# Altium schematic symbol library ABSDataSystem_PartsLibrary.SchLib: 57 symbols
Pins are listed as number, name and electrical type; pins without a type are passive.

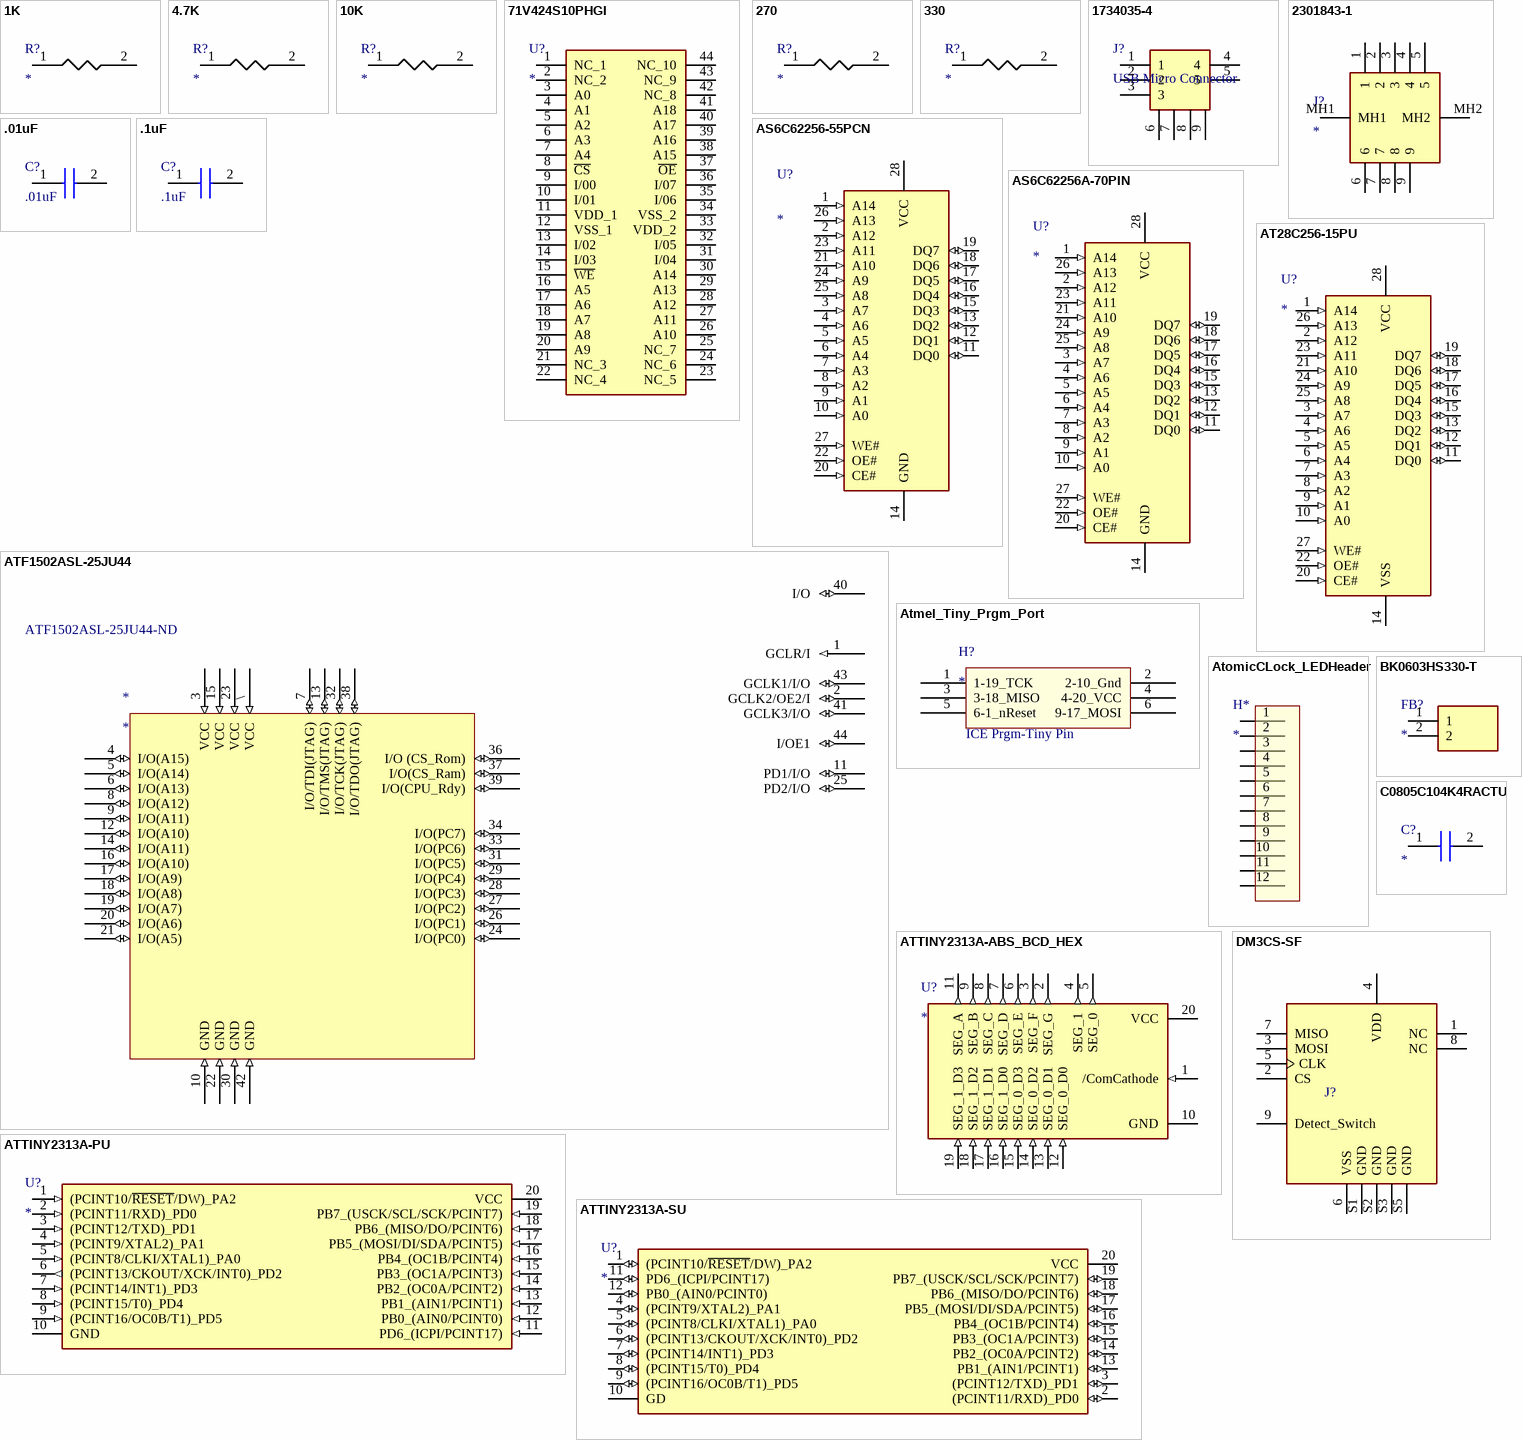
[diagram p0: symbols 1K to DM3CS-SF]

## 1K
designator R?
1K Res 0805; Manufacturer_Name: YAGEO (PHYCOMP); Manufacturer_Part_Number: RT0805FRE071KL; Datasheet Link: https://componentsearchengine.com/Datasheets/2/RT0805FRE071KL.pdf; Height: 0.6mm
footprint RESC2012X60N
pins: 1, 2

## 4.7K
designator R?
4.7K Res 0805; Manufacturer_Name: YAGEO (PHYCOMP); Manufacturer_Part_Number: RT0805FRE071KL; Datasheet Link: https://componentsearchengine.com/Datasheets/2/RT0805FRE071KL.pdf; Height: 0.6mm
footprint RESC2012X60N
pins: 1, 2

## 10K
designator R?
10k Res 0805; Manufacturer_Name: YAGEO (PHYCOMP); Manufacturer_Part_Number: RT0805FRE0710KL; Datasheet Link: https://componentsearchengine.com/Datasheets/2/RT0805FRE0710KL.pdf; Height: 0.6mm
footprint RESC2012X60N
pins: 1, 2

## 71V424S10PHGI
designator U?
71V424S10PHGI SMD; Manufacturer_Name: IDT; Datasheet Link: https://www.idt.com/document/dst/71v424-data-sheet; Height: 1.2mm; Manufacturer_Part_Number: 71V424S10PHGI
footprint SOP80P1176X120-44N
pins: 1 NC_1, 2 NC_2, 3 A0, 4 A1, 5 A2, 6 A3, 7 A4, 8 ~{CS}, 9 I/00, 10 I/01, 11 VDD_1, 12 VSS_1, 13 I/02, 14 I/03, 15 ~{WE}, 16 A5, 17 A6, 18 A7, 19 A8, 20 A9, 21 NC_3, 22 NC_4, 23 NC_5, 24 NC_6, 25 NC_7, 26 A10, 27 A11, 28 A12, 29 A13, 30 A14, 31 I/04, 32 I/05, 33 VDD_2, 34 VSS_2, 35 I/06, 36 I/07, 37 ~{OE}, 38 A15, 39 A16, 40 A17, 41 A18, 42 NC_8, 43 NC_9, 44 NC_10

## 270
designator R?
270 Res 0805; Manufacturer_Name: YAGEO (PHYCOMP); Manufacturer_Part_Number: RT0805FRE07270KL; Datasheet Link: https://componentsearchengine.com/Datasheets/2/RT0805FRE071KL.pdf; Height: 0.6mm
footprint RESC2012X60N
pins: 1, 2

## 330
designator R?
330 Res 0805; Manufacturer_Name: YAGEO (PHYCOMP); Manufacturer_Part_Number: RT0805FRE07330KL; Datasheet Link: https://componentsearchengine.com/Datasheets/2/RT0805FRE071KL.pdf; Height: 0.6mm
footprint RESC2012X60N
pins: 1, 2

## 1734035-4
designator J?, comment USB Micro Connector
USB Micro Connector SMD; Manufacturer_Name: TE Connectivity; Manufacturer_Part_Number: 1734035-4; Datasheet Link: https://componentsearchengine.com//1734035-4.pdf; Mouser2 Part Number: 571-1734035-4; Mouser2 Price/Stock: https://www.mouser.com/Search/Refine.aspx?Keyword=571-1734035-4
footprint 1734035-2USB
pins: 1, 2, 3, 4, 5, 6 Shield, 7 Shield, 8 Shield, 9 Shield5

## 2301843-1
designator J?
9 Pin Serial Through Hole; Manufacturer_Name: TE Connectivity; Manufacturer_Part_Number: 2301843-1; Datasheet Link: https://componentsearchengine.com//2301843-1.pdf; Height: 13.955mm; Mouser2 Part Number: 571-2301843-1; Mouser2 Price/Stock: https://www.mouser.com/Search/Refine.aspx?Keyword=571-2301843-1
footprint 23018431
pins: 1, 2, 3, 4, 5, 6, 7, 8, 9, MH1, MH2

## .01uF
designator C?
.01uF Cap 0805; Manufacturer_Name: Wurth Elektronik; Manufacturer_Part_Number: 885382207006; Datasheet Link: https://katalog.we-online.com/pbs/datasheet/885382207006.pdf; Height: 1.35mm
footprint CAPC2012X135N (Footprint not found)
pins: 1, 2

## .1uF
designator C?
.1uF Cap 0805; Manufacturer_Name: Wurth Elektronik; Manufacturer_Part_Number: 885382206004; Datasheet Link: https://katalog.we-online.com/pbs/datasheet/885382206004.pdf; Height: 1.35mm
footprint CAPC2012X135N
pins: 1, 2

## AS6C62256-55PCN
designator U?
256 KBit SRAM Through Hole; Manufacturer_Name: Alliance Memory; Manufacturer_Part_Number: AS6C62256-55PCN; Datasheet Link: https://componentsearchengine.com//AS6C62256-55PCN.pdf; Height: 3.81mm; Mouser2 Part Number: 913-AS6C62256-55PCN; Mouser2 Price/Stock: https://www.mouser.com/Search/Refine.aspx?Keyword=913-AS6C62256-55PCN
footprint DIP1587W140P254L3632H381Q28N
pins: 1 A14 (in), 2 A12 (in), 3 A7 (in), 4 A6 (in), 5 A5 (in), 6 A4 (in), 7 A3 (in), 8 A2 (in), 9 A1 (in), 10 A0 (in), 11 DQ0 (io), 12 DQ1 (io), 13 DQ2 (io), 14 GND (power), 15 DQ3 (io), 16 DQ4 (io), 17 DQ5 (io), 18 DQ6 (io), 19 DQ7 (io), 20 CE# (in), 21 A10 (in), 22 OE# (in), 23 A11 (in), 24 A9 (in), 25 A8 (in), 26 A13 (in), 27 WE# (in), 28 VCC (power)

## AS6C62256A-70PIN
designator U?
256 KBit SRAM Through Hole; Manufacturer_Name: Alliance Memory; Manufacturer_Part_Number: AS6C62256A-70PIN; Datasheet Link: https://componentsearchengine.com//AS6C62256A-70PIN.pdf; Height: 4.572mm; Mouser2 Part Number: 913-AS6C62256A-70PIN; Mouser2 Price/Stock: https://www.mouser.com/Search/Refine.aspx?Keyword=913-AS6C62256A-70PIN
footprint DIP902W56P254L3556H457Q28N
pins: 1 A14 (in), 2 A12 (in), 3 A7 (in), 4 A6 (in), 5 A5 (in), 6 A4 (in), 7 A3 (in), 8 A2 (in), 9 A1 (in), 10 A0 (in), 11 DQ0 (io), 12 DQ1 (io), 13 DQ2 (io), 14 GND (power), 15 DQ3 (io), 16 DQ4 (io), 17 DQ5 (io), 18 DQ6 (io), 19 DQ7 (io), 20 CE# (in), 21 A10 (in), 22 OE# (in), 23 A11 (in), 24 A9 (in), 25 A8 (in), 26 A13 (in), 27 WE# (in), 28 VCC (power)

## AT28C256-15PU
designator U?
EEPROM 246K Bit Through Hole; Manufacturer_Name: Microchip; Manufacturer_Part_Number: AT28C256-15PU; Datasheet Link: https://componentsearchengine.com//AT28C256-15PU.pdf; Height: 4.826mm; Mouser2 Part Number: 556-AT28C25615PU; Mouser2 Price/Stock: https://www.mouser.com/Search/Refine.aspx?Keyword=556-AT28C25615PU
footprint DIP1556W56P254L3702H483Q28N
pins: 1 A14 (in), 2 A12 (in), 3 A7 (in), 4 A6 (in), 5 A5 (in), 6 A4 (in), 7 A3 (in), 8 A2 (in), 9 A1 (in), 10 A0 (in), 11 DQ0 (io), 12 DQ1 (io), 13 DQ2 (io), 14 VSS (power), 15 DQ3 (io), 16 DQ4 (io), 17 DQ5 (io), 18 DQ6 (io), 19 DQ7 (io), 20 CE# (in), 21 A10 (in), 22 OE# (in), 23 A11 (in), 24 A9 (in), 25 A8 (in), 26 A13 (in), 27 WE# (in), 28 VCC (power)

## ATF1502ASL-25JU44
designator *  Supplier Part Number 1: ATF1502ASL-25JU44-ND
IC CPLD 32 MC 25NS EE 44PLCC; Manufacturer: Microchip / Atmel; Manufacturer Part Number: ATF1502ASL-25JU44; Operating Supply Voltage: 5V; Speed Grade: 25; Max Frequency: 60MHz; Memory Type: EEPROM; Number of Logic Blocks (LABs): 2; Number of I/Os: 32; Number of Gates: 750; Max Supply Voltage: 5.5V; Min Supply Voltage: 4.5V; Supplier 1: Digi-Key; RoHS: Yes; Category: CPLDs - Complex Programming Logic Devices; Stock 1: 692; Pricing 1: 1=1.93000, 25=1.75000, 100=1.62000 (USD); Mount: Surface Mount,Through Hole; Case/Package: PLCC; Number of Pins: 44; Weight: 0.084185oz; Contact Plating: Tin,Matte; Min Operating Temperature: -40°C; Max Operating Temperature: 85°C; Propagation Delay: 25ns; Package Quantity: 27; Packaging: Rail/Tube; Frequency: 60MHz; Number of Macrocells: 32; Turn-On Delay Time: 25ns; Number of Logic Elements/Cells: 2; REACH SVHC: No SVHC; Lead Free: Lead Free; ComponentLink1URL: https://datasheet.ciiva.com/4911/doc0995-56892-4911952.pdf?src-supplier=Mouser; ComponentLink1Description: https://datasheet.ciiva.com/4911/doc0995-56892-4911952.pdf?src-supplier=Mouser; ComponentLink2URL: https://datasheet.ciiva.com/1406/doc0995-1406937.pdf?src-supplier=Digi-Key; ComponentLink2Description: https://datasheet.ciiva.com/1406/doc0995-1406937.pdf?src-supplier=Digi-Key; ComponentLink3URL: https://datasheet.ciiva.com/22639/1817553-22639226.pdf?src-supplier=Element14; ComponentLink3Description: https://datasheet.ciiva.com/22639/1817553-22639226.pdf?src-supplier=Element14; ComponentLink4URL: https://datasheet.ciiva.com/14542/70123952-14542540.pdf?src-supplier=Allied+Electronics; ComponentLink4Description: https://datasheet.ciiva.com/14542/70123952-14542540.pdf?src-supplier=Allied+Electronics; ComponentLink5URL: https://datasheet.ciiva.com/25924/doc0995-25924622.pdf?src-supplier=Avnet+Europe; ComponentLink5Description: https://datasheet.ciiva.com/25924/doc0995-25924622.pdf?src-supplier=Avnet+Europe
footprint PLCC127P1753X1753X457-44M (Leaded Chip Carrier, 44-Leads, Body 17.53x17.53mm, Pitch 1.270mm, IPC Low Density)
pins: 1 GCLR/I (in), 2 GCLK2/OE2/I (io), 3 VCC (in), 4 I/O(A15) (io), 5 I/O(A14) (io), 6 I/O(A13) (io), 7 I/O/TDI(JTAG) (io), 8 I/O(A12) (io), 9 I/O(A11) (io), 10 GND (in), 11 PD1/I/O (io), 12 I/O(A10) (io), 13 I/O/TMS(JTAG) (io), 14 I/O(A11) (io), 15 VCC (in), 16 I/O(A10) (io), 17 I/O(A9) (io), 18 I/O(A8) (io), 19 I/O(A7) (io), 20 I/O(A6) (io), 21 I/O(A5) (io), 22 GND (in), 23 VCC (in), 24 I/O(PC0) (io), 25 PD2/I/O (io), 26 I/O(PC1) (io), 27 I/O(PC2) (io), 28 I/O(PC3) (io), 29 I/O(PC4) (io), 30 GND (in), 31 I/O(PC5) (io), 32 I/O/TCK(JTAG) (io), 33 I/O(PC6) (io), 34 I/O(PC7) (io), 36 I/O (CS_Rom) (io), 37 I/O(CS_Ram) (io), 38 I/O/TDO(JTAG) (io), 39 I/O(CPU_Rdy) (io), 40 I/O (io), 41 GCLK3/I/O (io), 42 GND (in), 43 GCLK1/I/O (io), 44 I/OE1 (io), \ VCC (in)

## Atmel_Tiny_Prgm_Port
designator H?
6 Pin 2X3 Through Hole Header
footprint HDR2X3 (Connector; Header; 3x2 Position)
pins: 1 1-19_TCK, 2 2-10_Gnd, 3 3-18_MISO, 4 4-20_VCC, 5 6-1_nReset, 6 9-17_MOSI
text: ICE Prgm-Tiny Pin

## AtomicCLock_LEDHeader
designator H*
Atomic Clock Led Header
footprint Atomic_Clock_DisplayHeader
pins: 1, 2, 3, 4, 5, 6, 7, 8, 9, 10, 11, 12

## ATTINY2313A-ABS_BCD_HEX
designator U?
Atmel Tiny 2313A Through Hole; Manufacturer_Name: Microchip; Manufacturer_Part_Number: ATTINY2313A-PU; Datasheet Link: https://componentsearchengine.com//ATTINY2313A-PU.pdf; Height: 5.334mm; Mouser2 Part Number: 556-ATTINY2313A-PU; Mouser2 Price/Stock: https://www.mouser.com/Search/Refine.aspx?Keyword=556-ATTINY2313A-PU
footprint DIP794W56P254L2574H533Q20N
pins: 1 /ComCathode (in), 2 SEG_G (out), 3 SEG_F (out), 4 SEG_1 (out), 5 SEG_0 (out), 6 SEG_E (out), 7 SEG_D (out), 8 SEG_C (out), 9 SEG_B (out), 10 GND (power), 11 SEG_A (out), 12 SEG_0_D0 (in), 13 SEG_0_D1 (in), 14 SEG_0_D2 (in), 15 SEG_0_D3 (in), 16 SEG_1_D0 (in), 17 SEG_1_D1 (in), 18 SEG_1_D2 (in), 19 SEG_1_D3 (in), 20 VCC (power)

## ATTINY2313A-PU
designator U?
Atmel Tiny 2313A Through Hole; Manufacturer_Name: Microchip; Manufacturer_Part_Number: ATTINY2313A-PU; Datasheet Link: https://componentsearchengine.com//ATTINY2313A-PU.pdf; Height: 5.334mm; Mouser2 Part Number: 556-ATTINY2313A-PU; Mouser2 Price/Stock: https://www.mouser.com/Search/Refine.aspx?Keyword=556-ATTINY2313A-PU
footprint DIP794W56P254L2574H533Q20N
pins: 1 (PCINT10/~{RESET}/DW)_PA2 (in), 2 (PCINT11/RXD)_PD0 (in), 3 (PCINT12/TXD)_PD1 (in), 4 (PCINT9/XTAL2)_PA1 (in), 5 (PCINT8/CLKI/XTAL1)_PA0 (in), 6 (PCINT13/CKOUT/XCK/INT0)_PD2 (out), 7 (PCINT14/INT1)_PD3 (in), 8 (PCINT15/T0)_PD4 (in), 9 (PCINT16/OC0B/T1)_PD5 (in), 10 GND (power), 11 PD6_(ICPI/PCINT17) (in), 12 PB0_(AIN0/PCINT0) (in), 13 PB1_(AIN1/PCINT1) (in), 14 PB2_(OC0A/PCINT2) (in), 15 PB3_(OC1A/PCINT3) (in), 16 PB4_(OC1B/PCINT4) (in), 17 PB5_(MOSI/DI/SDA/PCINT5) (in), 18 PB6_(MISO/DO/PCINT6) (in), 19 PB7_(USCK/SCL/SCK/PCINT7) (in), 20 VCC (power)

## ATTINY2313A-SU
designator U?
Atmel Tiny 2313A SMD; Manufacturer_Name: Microchip; Manufacturer_Part_Number: ATTINY2313A-SU; Datasheet Link: https://componentsearchengine.com//ATTINY2313A-SU.pdf; Height: 2.65mm; Mouser2 Part Number: 556-ATTINY2313A-SU; Mouser2 Price/Stock: https://www.mouser.com/Search/Refine.aspx?Keyword=556-ATTINY2313A-SU
footprint SOIC127P1032X265-20N
pins: 1 (PCINT10/~{RESET}/DW)_PA2 (io), 2 (PCINT11/RXD)_PD0 (io), 3 (PCINT12/TXD)_PD1 (io), 4 (PCINT9/XTAL2)_PA1 (io), 5 (PCINT8/CLKI/XTAL1)_PA0 (io), 6 (PCINT13/CKOUT/XCK/INT0)_PD2 (io), 7 (PCINT14/INT1)_PD3 (io), 8 (PCINT15/T0)_PD4 (io), 9 (PCINT16/OC0B/T1)_PD5 (io), 10 GD, 11 PD6_(ICPI/PCINT17) (io), 12 PB0_(AIN0/PCINT0) (io), 13 PB1_(AIN1/PCINT1) (io), 14 PB2_(OC0A/PCINT2) (io), 15 PB3_(OC1A/PCINT3) (io), 16 PB4_(OC1B/PCINT4) (io), 17 PB5_(MOSI/DI/SDA/PCINT5) (io), 18 PB6_(MISO/DO/PCINT6) (io), 19 PB7_(USCK/SCL/SCK/PCINT7) (io), 20 VCC (power)

## BK0603HS330-T
designator FB?
Ferrite Bead; Manufacturer_Name: TAIYO YUDEN; Manufacturer_Part_Number: BK0603HS330-T; Datasheet Link: http://ds.yuden.co.jp/TYCOMPAS/ut/detail.do?productNo=BK0603HS330-T&fileName=BK0603HS330-T_SS&mode=specSheetDownload.pdf; Height: 0.33mm; Mouser2 Part Number: BK0603HS330-T; Mouser2 Price/Stock: 0.14
footprint BEADC0603X33N
pins: 1, 2

## C0805C104K4RACTU
designator C?
0.1uF Cap 0805 Kemet; Manufacturer_Part_Number: C0805C104K4RACTU; Datasheet Link: https://componentsearchengine.com//C0805C104K4RACTU.pdf; Height: 0.88mm; Mouser2 Part Number: 80-C0805C104K4R; Mouser2 Price/Stock: https://www.mouser.com/Search/Refine.aspx?Keyword=80-C0805C104K4R; Manufacturer_Name: Kemet
footprint CAPC2012X88N
pins: 1, 2

## DM3CS-SF
designator J?, comment Micro SD Card Socket  (value not drawn)
Micro SD Card SMD Socket; MF: Hirose; MP: DM3CS-SF; Package: None; Digi-Key_Part_Number: HR1972CT-ND; Digi-Key_Purchase_URL: https://www.digikey.com/product-detail/en/hirose-electric-co-ltd/DM3CS-SF/HR1972CT-ND/2602740?utm_source=snapeda&utm_medium=aggregator&utm_campaign=symbol; SnapEDA_Link: https://www.snapeda.com/parts/DM3CS-SF/Hirose%20Electric%20Co%20Ltd/view-part/189585/?ref=snap; Value: *
footprint HRS_DM3CS-SF
pins: 1 NC, 2 CS, 3 MOSI, 4 VDD, 5 CLK, 6 VSS, 7 MISO, 8 NC, 9 Detect_Switch, S1 GND, S2 GND, S3 GND, S5 GND

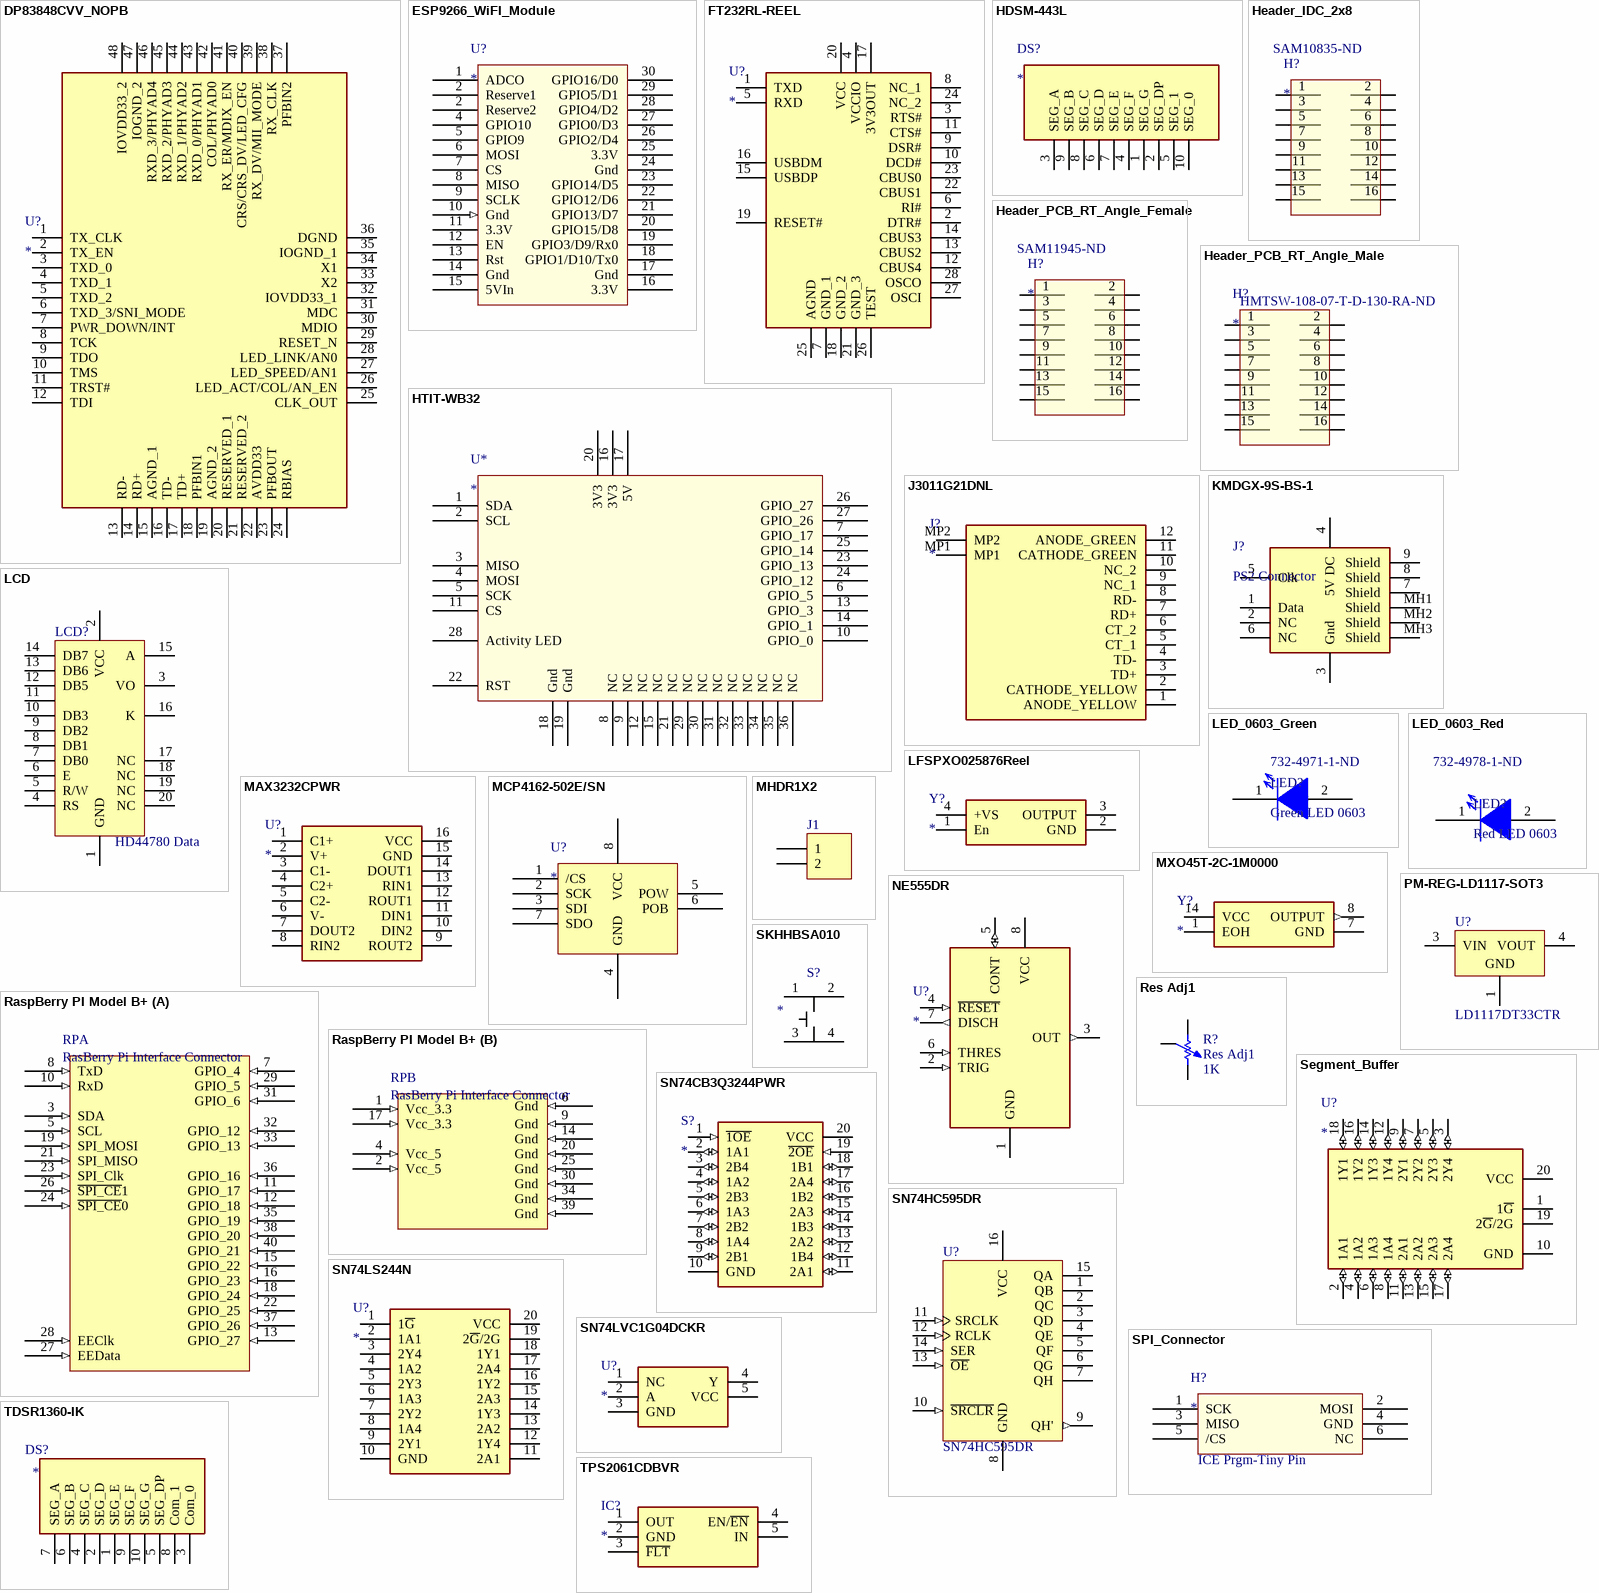
[diagram p1: symbols DP83848CVV_NOPB to TPS2061CDBVR]

## DP83848CVV_NOPB
designator U?
10/100 Base-T Phy SMD; Manufacturer_Name: Texas Instruments; Manufacturer_Part_Number: DP83848CVV/NOPB; Datasheet Link: http://www.ti.com/lit/gpn/dp83848c; Height: 1.6mm; Mouser2 Part Number: 926-DP83848CVV/NOPB; Mouser2 Price/Stock: https://www.mouser.com/Search/Refine.aspx?Keyword=926-DP83848CVV%2FNOPB
footprint QFP50P900X900X160-48N
pins: 1 TX_CLK, 2 TX_EN, 3 TXD_0, 4 TXD_1, 5 TXD_2, 6 TXD_3/SNI_MODE, 7 PWR_DOWN/INT, 8 TCK, 9 TDO, 10 TMS, 11 TRST#, 12 TDI, 13 RD-, 14 RD+, 15 AGND_1, 16 TD-, 17 TD+, 18 PFBIN1, 19 AGND_2, 20 RESERVED_1, 21 RESERVED_2, 22 AVDD33, 23 PFBOUT, 24 RBIAS, 25 CLK_OUT, 26 LED_ACT/COL/AN_EN, 27 LED_SPEED/AN1, 28 LED_LINK/AN0, 29 RESET_N, 30 MDIO, 31 MDC, 32 IOVDD33_1, 33 X2, 34 X1, 35 IOGND_1, 36 DGND, 37 PFBIN2, 38 RX_CLK, 39 RX_DV/MII_MODE, 40 CRS/CRS_DV/LED_CFG, 41 RX_ER/MDIX_EN, 42 COL/PHYAD0, 43 RXD_0/PHYAD1, 44 RXD_1/PHYAD2, 45 RXD_2/PHYAD3, 46 RXD_3/PHYAD4, 47 IOGND_2, 48 IOVDD33_2

## ESP9266_WiFI_Module
designator U?
footprint ESP9266_Module
pins: 1 ADCO, 2 Reserve1, 2 Reserve2, 4 GPIO10, 5 GPIO9, 6 MOSI, 7 CS, 8 MISO, 9 SCLK, 10 Gnd (in), 11 3.3V, 12 EN, 13 Rst, 14 Gnd, 15 5VIn, 16 3.3V, 17 Gnd, 18 GPIO1/D10/Tx0, 19 GPIO3/D9/Rx0, 20 GPIO15/D8, 21 GPIO13/D7, 22 GPIO12/D6, 23 GPIO14/D5, 24 Gnd, 25 3.3V, 26 GPIO2/D4, 27 GPIO0/D3, 28 GPIO4/D2, 29 GPIO5/D1, 30 GPIO16/D0

## FT232RL-REEL
designator U?
USB-Serial SMD; Manufacturer_Name: FTDI Chip; Manufacturer_Part_Number: FT232RL-REEL; Datasheet Link: http://www.ftdichip.com/Support/Documents/DataSheets/ICs/DS_FT232R.pdf; Height: 2mm
footprint SOP65P778X200-28N
pins: 1 TXD, 2 DTR#, 3 RTS#, 4 VCCIO, 5 RXD, 6 RI#, 7 GND_1, 8 NC_1, 9 DSR#, 10 DCD#, 11 CTS#, 12 CBUS4, 13 CBUS2, 14 CBUS3, 15 USBDP, 16 USBDM, 17 3V3OUT, 18 GND_2, 19 RESET#, 20 VCC, 21 GND_3, 22 CBUS1, 23 CBUS0, 24 NC_2, 25 AGND, 26 TEST, 27 OSCI, 28 OSCO

## HDSM-443L
designator DS?
Dual 7 Segment Common Cathode SMD Orange; Manufacturer_Name: Avago Technologies; Manufacturer_Part_Number: HDSM-443L; Datasheet Link: https://docs.broadcom.com/doc/AV02-0982EN; Height: 4mm
footprint HDSM443L
pins: 1 SEG_G, 2 SEG_DP, 3 SEG_A, 4 SEG_F, 5 SEG_1, 6 SEG_D, 7 SEG_E, 8 SEG_C, 9 SEG_B, 10 SEG_0

## Header_IDC_2x8
designator H?  Supplier Part Number 1: SAM10835-ND
16 Pin 2x8 Through Hold IDC Connector; Manufacturer: Samtec; Manufacturer Part Number: TST-108-01-G-D; Number of Contacts: 16; Gender: Male; Connector Type: Male Pin; Pitch: 2.54mm; Row Spacing: 0.1inch; Supplier 1: Digi-Key; RoHS: Yes; Category: Headers and Wire Housings; Stock 1: 227; Pricing 1: 1=2.85000, 10=2.73600, 100=2.28000, 500=1.93800, 1000=1.65300, 5000=1.48200 (USD); Mount: Through Hole; Contact Plating: Gold; Contact Material: Bronze; Housing Material: Polyester; Housing Color: Black; Color: Black; Min Operating Temperature: -55°C; Max Operating Temperature: 125°C; Number of Rows: 2; Termination: Solder; Packaging: Rail/Tube; Orientation: Straight; Number of Positions: 16; Length: 27.94mm; Depth: 9.27mm; Contact Mating Length: 0.25inch; REACH SVHC: No SVHC; ComponentLink1URL: https://datasheet.ciiva.com/739/tst-mkt-739845.pdf?src-supplier=Digi-Key; ComponentLink1Description: https://datasheet.ciiva.com/739/tst-mkt-739845.pdf?src-supplier=Digi-Key; ComponentLink2URL: https://datasheet.ciiva.com/10018/htst-10018510.pdf?src-supplier=Avnet; ComponentLink2Description: https://datasheet.ciiva.com/10018/htst-10018510.pdf?src-supplier=Avnet
footprint HDR2X8 (Connector; Header; 8x2 Position)
pins: 1, 2, 3, 4, 5, 6, 7, 8, 9, 10, 11, 12, 13, 14, 15, 16

## Header_PCB_RT_Angle_Female
designator H?  Supplier Part Number 1: SAM11945-ND
Header 2x8 RT Angle Female Through Hole; Manufacturer: Samtec; Manufacturer Part Number: SSW-108-02-T-D-RA; Number of Contacts: 16; Gender: Receptacle; Max Current Rating: 6.9A; Max Voltage Rating (AC): 550V; Mating Cycles: 100; Contact Resistance: 10mR; Pitch: 2.54mm; Supplier 1: Digi-Key; RoHS: Yes; Category: Connectors; Stock 1: 101; Pricing 1: 1=1.62000, 10=1.47000, 100=1.26000, 500=1.05000, 1000=0.90000, 5000=0.79800, 10000=0.78000 (USD); Contact Plating: Tin,Matte; Contact Material: Bronze; Color: Black; Housing Color: Black; Housing Material: Polymer; Min Operating Temperature: -55°C; Max Operating Temperature: 105°C; Number of Rows: 2; Termination: Solder; Orientation: Right Angle; Length: 20.83mm; Depth: 12.57mm; Radiation Hardening: No; REACH SVHC: No SVHC; ComponentLink1URL: https://datasheet.ciiva.com/23872/ssw-th-23872416.pdf?src-supplier=Newark; ComponentLink1Description: https://datasheet.ciiva.com/23872/ssw-th-23872416.pdf?src-supplier=Newark; ComponentLink2URL: https://datasheet.ciiva.com/22677/1796368-22677501.pdf?src-supplier=Element14; ComponentLink2Description: https://datasheet.ciiva.com/22677/1796368-22677501.pdf?src-supplier=Element14; ComponentLink3URL: https://datasheet.ciiva.com/14495/ssw-th-14495167.pdf?src-supplier=Farnell; ComponentLink3Description: https://datasheet.ciiva.com/14495/ssw-th-14495167.pdf?src-supplier=Farnell
footprint HDR2X8 (Connector; Header; 8x2 Position)
pins: 1, 2, 3, 4, 5, 6, 7, 8, 9, 10, 11, 12, 13, 14, 15, 16

## Header_PCB_RT_Angle_Male
designator H?  Supplier Part Number 1: HMTSW-108-07-T-D-130-RA-ND
Header 2x8 RT Angle Male Through Hole; Manufacturer: Samtec; Manufacturer Part Number: HMTSW-108-07-T-D-130-RA; Number of Contacts: 16; Pitch: 2.54mm; Supplier 1: Digi-Key; RoHS: Yes; Category: Connectors; Stock 1: 191; Pricing 1: 1=1.33000, 10=1.17300, 100=1.01200, 500=0.82800, 1000=0.73600, 5000=0.64400, 10000=0.61180 (USD); Mount: Through Hole; Contact Plating: Tin; Contact Material: Bronze; Number of Rows: 2; Gender: Male; Termination: Solder; Lead Free: Lead Free; ComponentLink1URL: http://cloud.samtec.com/catalog_english/HMTSW.PDF?src-supplier=Avnet; ComponentLink1Description: http://cloud.samtec.com/catalog_english/HMTSW.PDF?src-supplier=Avnet
footprint HDR2X8 (Connector; Header; 8x2 Position)
pins: 1, 2, 3, 4, 5, 6, 7, 8, 9, 10, 11, 12, 13, 14, 15, 16

## HTIT-WB32
designator U*
WIFI Module; ComponentLink1Description: New link; ComponentLink1URL: https://www.amazon.com/gp/product/B07DKD79Y9/ref=ppx_yo_dt_b_asin_title_o00_s00?ie=UTF8&psc=1
footprint DIP36Wide
pins: 1 SDA, 2 SCL, 3 MISO, 4 MOSI, 5 SCK, 6 GPIO_5, 7 GPIO_17, 8 NC, 9 NC, 10 GPIO_0, 11 CS, 12 NC, 13 GPIO_3, 14 GPIO_1, 15 NC, 16 3V3, 17 5V, 18 Gnd, 19 Gnd, 20 3V3, 21 NC, 22 RST, 23 GPIO_13, 24 GPIO_12, 25 GPIO_14, 26 GPIO_27, 27 GPIO_26, 28 Activity LED, 29 NC, 30 NC, 31 NC, 32 NC, 33 NC, 34 NC, 35 NC, 36 NC

## J3011G21DNL
designator J?
RJ45 Ethernet connector SMD; Manufacturer_Name: Pulse; Manufacturer_Part_Number: J3011G21DNL; Datasheet Link: https://componentsearchengine.com//J3011G21DNL.pdf; Mouser2 Part Number: 673-J3011G21DNL; Mouser2 Price/Stock: https://www.mouser.com/Search/Refine.aspx?Keyword=673-J3011G21DNL
footprint J3011G21DNL
pins: 1 ANODE_YELLOW, 2 CATHODE_YELLOW, 3 TD+, 4 TD-, 5 CT_1, 6 CT_2, 7 RD+, 8 RD-, 9 NC_1, 10 NC_2, 11 CATHODE_GREEN, 12 ANODE_GREEN, MP1, MP2

## KMDGX-9S-BS-1
designator J?, comment PS2 Connector
PS2 Keyboard/Mouse Connector; Manufacturer_Name: Kycon; Manufacturer_Part_Number: KMDGX-9S-BS-1; Datasheet Link: https://componentsearchengine.com//KMDGX-9S-BS-1.pdf; Height: 13mm; Mouser2 Part Number: 806-KMDGX-9S-BS-1; Mouser2 Price/Stock: https://www.mouser.com/Search/Refine.aspx?Keyword=806-KMDGX-9S-BS-1
footprint KMDGX9SBS1
pins: 1 Data, 2 NC, 3 Gnd, 4 5V DC, 5 Clk, 6 NC, 7 Shield, 8 Shield, 9 Shield, MH1 Shield, MH2 Shield, MH3 Shield

## LCD
designator LCD?, comment HD44780 Data
2 Line LCD DIsplay; LatestRevisionDate: 17-Jul-2002; LatestRevisionNote: Re-released for DXP Platform.; Publisher: Altium Limited
footprint LCD_1X16_Header
pins: 1 GND, 2 VCC, 3 VO, 4 RS, 5 R/W, 6 E, 7 DB0, 8 DB1, 9 DB2, 10 DB3, 11 ~{}, 12 DB5, 13 DB6, 14 DB7, 15 A, 16 K, 17 NC, 18 NC, 19 NC, 20 NC

## LED_0603_Green
designator LED?, comment Green LED 0603  Supplier Part Number 1: 732-4971-1-ND
Green 0603 SMD LED; Manufacturer: Wurth Electronics; Manufacturer Part Number: 150060GS75000; Wavelength: 520nm; Viewing Angle: 140°; Lens Style: Clear,Rectangular; Luminous Intensity: 430mcd; Forward Current: 30mA; Forward Voltage: 3.2V; Test Current: 20mA; Supplier 1: Digi-Key; RoHS: Yes; Category: LEDs; Stock 1: 71509; Pricing 1: 1=0.14000, 50=0.13300, 100=0.11400, 500=0.09900 (USD); Mount: Surface Mount; Case/Package: 0603; Color: Green; Case Code (Metric): 1608; Case Code (Imperial): 0603; Min Operating Temperature: -40°C; Max Operating Temperature: 85°C; Package Quantity: 4000; Packaging: Tape and Reel; Dominant Wavelength: 520nm; Length: 1.6mm; Width: 0.8mm; Height: 0.7mm; REACH SVHC: Unknown; Lead Free: Lead Free; ComponentLink1URL: https://datasheet.ciiva.com/29562/150060gs75000-29562868.pdf?src-supplier=Digi-Key; ComponentLink1Description: https://datasheet.ciiva.com/29562/150060gs75000-29562868.pdf?src-supplier=Digi-Key; ComponentLink2URL: https://datasheet.ciiva.com/29279/759427-da-01-en-chipled-0603-w-kl-gruen-150060gs75000-29279201.pdf?src-supplier=Conrad; ComponentLink2Description: https://datasheet.ciiva.com/29279/759427-da-01-en-chipled-0603-w-kl-gruen-150060gs75000-29279201.pdf?src-supplier=Conrad; ComponentLink3URL: https://datasheet.ciiva.com/29562/150060gs75000-29562869.pdf?src-supplier=Digi-Key; ComponentLink3Description: https://datasheet.ciiva.com/29562/150060gs75000-29562869.pdf?src-supplier=Digi-Key; ComponentLink4URL: https://datasheet.ciiva.com/29562/150060gs75000-29562870.pdf?src-supplier=Digi-Key; ComponentLink4Description: https://datasheet.ciiva.com/29562/150060gs75000-29562870.pdf?src-supplier=Digi-Key
footprint 0603_Diode
pins: 1 K, 2 A

## LED_0603_Red
designator LED?, comment Red LED 0603  Supplier Part Number 1: 732-4978-1-ND
Red 0603 SMD LED; Manufacturer: Wurth Electronics; Manufacturer Part Number: 150060RS75000; Viewing Angle: 140°; Lens Style: Clear,Rectangular; Luminous Intensity: 250mcd; Forward Current: 30mA; Forward Voltage: 2V; Wavelength: 625nm; Test Current: 20mA; Supplier 1: Digi-Key; RoHS: Yes; Category: LEDs; Stock 1: 132905; Pricing 1: 1=0.14000, 50=0.13300, 100=0.11400, 500=0.09900 (USD); Mount: Surface Mount; Case/Package: 0603; Color: Red; Case Code (Metric): 1608; Case Code (Imperial): 0603; Min Operating Temperature: -40°C; Max Operating Temperature: 85°C; Package Quantity: 1; Packaging: Cut Tape; Dominant Wavelength: 625nm; Length: 1.6mm; Width: 0.8mm; Height: 0.7mm; REACH SVHC: Unknown; ComponentLink1URL: https://datasheet.ciiva.com/29563/150060rs75000-29563040.pdf?src-supplier=Digi-Key; ComponentLink1Description: https://datasheet.ciiva.com/29563/150060rs75000-29563040.pdf?src-supplier=Digi-Key; ComponentLink2URL: https://datasheet.ciiva.com/29279/759428-da-01-en-chipled-0603-w-kl-rot-150060rs75000-29279196.pdf?src-supplier=Conrad; ComponentLink2Description: https://datasheet.ciiva.com/29279/759428-da-01-en-chipled-0603-w-kl-rot-150060rs75000-29279196.pdf?src-supplier=Conrad
footprint 0603_Diode
pins: 1 K, 2 A

## LFSPXO025876Reel
designator Y?
13.56 MHz Crystal Oscilator SMD; Manufacturer_Name: IQD; Manufacturer_Part_Number: LFSPXO025876Reel; Datasheet Link: https://componentsearchengine.com/Datasheets/1/LFSPXO025876Reel.pdf; Height: 1.4mm
footprint LFSPXO025876Reel
pins: 1 En, 2 GND, 3 OUTPUT, 4 +VS

## MAX3232CPWR
designator U?
RS232 Interface SMD; Manufacturer_Name: Texas Instruments; Manufacturer_Part_Number: MAX3232CPWR; Datasheet Link: http://www.ti.com/lit/gpn/max3232; Height: 1.2mm; Mouser2 Part Number: 595-MAX3232CPWR; Mouser2 Price/Stock: https://www.mouser.com/Search/Refine.aspx?Keyword=595-MAX3232CPWR
footprint SOP65P640X120-16N
pins: 1 C1+, 2 V+, 3 C1-, 4 C2+, 5 C2-, 6 V-, 7 DOUT2, 8 RIN2, 9 ROUT2, 10 DIN2, 11 DIN1, 12 ROUT1, 13 RIN1, 14 DOUT1, 15 GND, 16 VCC

## MCP4162-502E/SN
designator U?
5K Digital Rheostat with EE and 256 Positions SMD
footprint SOIC127P600X175-8N
pins: 1 /CS, 2 SCK, 3 SDI, 4 GND, 5 POW, 6 POB, 7 SDO, 8 VCC

## MHDR1X2
designator J1
Header, 2-Pin; LatestRevisionDate: 17-Jul-2002; LatestRevisionNote: Re-released for DXP Platform.; Publisher: Altium Limited
signal-integrity model Connector
footprint MHDR1X2 (Connector; Header; 2 Position)
pins: 1, 2

## MXO45T-2C-1M0000
designator Y?
1 MHz Crystal Oscilator Through Hole; Manufacturer_Name: CTS; Manufacturer_Part_Number: MXO45T-2C-1M0000; Datasheet Link: https://componentsearchengine.com/Datasheets/1/MXO45T-2C-1M0000.pdf; Height: 6.1mm
footprint MXO45T2C1M0000
pins: 1 EOH, 7 GND, 8 OUTPUT (out), 14 VCC

## NE555DR
designator U?
NE-555 SMD; Manufacturer_Name: Texas Instruments; Manufacturer_Part_Number: NE555DR; Datasheet Link: http://www.ti.com/lit/ds/symlink/ne555.pdf; Height: 1.75mm; Mouser Part Number: 595-NE555DR; Mouser Price/Stock: https://www.mouser.com/Search/Refine.aspx?Keyword=595-NE555DR; RS Part Number: 1218414; RS Price/Stock: http://uk.rs-online.com/web/p/products/1218414
footprint SOIC127P600X175-8N
pins: 1 GND (power), 2 TRIG (in), 3 OUT (out), 4 ~{RESET} (in), 5 CONT (io), 6 THRES (in), 7 DISCH (out), 8 VCC (power)

## PM-REG-LD1117-SOT3
designator U?, comment LD1117DT33CTR
3.3V Voltage Regulator SMD; PackageVersion: 2011; ComponentLink1URL: http://www.st.com; DatasheetVersion: 1/11/2011; PackageReference: TO-252; ComponentLink1Description: Manufacturer URL; ComponentLink2URL: http://www.st.com/internet/com/TECHNICAL_RESOURCES/TECHNICAL_LITERATURE/DATASHEET/CD00000544.pdf; ComponentLink2Description: Datasheet; PackageDescription: 3-Pin Transistor Outline Package 2.28 mm Pitch, 9.7 mm Lead Span (DPAK)
footprint TO-252_N (D-PAK, 4-Leads, Body 6.1x6.5mm, Pitch 2.28mm, Lead Span 9.7mm, IPC Medium Density)
pins: 1 GND (power), 3 VIN (power), 4 VOUT (power)

## RaspBerry PI Model B+
designator RP, comment RasBerry Pi Interface Connector
footprint Raspberry_PI_Model_B+
part A pins: 3 SDA (in), 5 SCL (in), 7 GPIO_4 (in), 8 TxD (in), 10 RxD (in), 11 GPIO_17 (in), 12 GPIO_18 (in), 13 GPIO_27 (in), 15 GPIO_22 (in), 16 GPIO_23 (in), 18 GPIO_24 (in), 19 SPI_MOSI (in), 21 SPI_MISO (in), 22 GPIO_25 (in), 23 SPI_Clk (in), 24 ~{SPI_CE}0 (in), 26 ~{SPI_CE}1 (in), 27 EEData (in), 28 EEClk (in), 29 GPIO_5 (in), 31 GPIO_6 (in), 32 GPIO_12 (in), 33 GPIO_13 (in), 35 GPIO_19 (in), 36 GPIO_16 (in), 37 GPIO_26 (in), 38 GPIO_20 (in), 40 GPIO_21 (in)
part B pins: 1 Vcc_3.3 (in), 2 Vcc_5 (in), 4 Vcc_5 (in), 6 Gnd (in), 9 Gnd (in), 14 Gnd (in), 17 Vcc_3.3 (in), 20 Gnd (in), 25 Gnd (in), 30 Gnd (in), 34 Gnd (in), 39 Gnd (in)

## Res Adj1
designator R?  value 1K
1K Res Var Through Hole; Set Position: 0.5; Published: 8-Jun-2000; LatestRevisionDate: 17-Jul-2002; LatestRevisionNote: Re-released for DXP Platform.; PackageReference: AXIAL-0.7; Publisher: Altium Limited; PackageDescription: Axial Device, Thru-Hole; 2 Leads; 0.7 in Pin Spacing
footprint AXIAL-0.7 (Axial Device, Thru-Hole; 2 Leads; 0.7 in Pin Spacing)
simulation model VRES (Variable Resistor)
signal-integrity model Res Adj
pins: 1, 2, 3

## Segment_Buffer
designator U?
SN74LS244N Through Hole; Manufacturer_Name: Texas Instruments; Datasheet Link: https://www.ti.com/lit/gpn/SN74LS244; Height: 5.08mm; Manufacturer_Part_Number: SN74LS244N
footprint DIP794W53P254L2540H508Q20N
pins: 1 1~{G}, 2 1A1 (io), 3 2Y4 (io), 4 1A2 (io), 5 2Y3 (io), 6 1A3 (io), 7 2Y2 (io), 8 1A4 (io), 9 2Y1 (io), 10 GND, 11 2A1 (io), 12 1Y4 (io), 13 2A2 (io), 14 1Y3 (io), 15 2A3 (io), 16 1Y2 (io), 17 2A4 (io), 18 1Y1 (io), 19 2~{G}/2G, 20 VCC

## SKHHBSA010
designator S?
Switch Through Hole; Manufacturer_Name: ALPS; Manufacturer_Part_Number: SKHHBSA010; Datasheet Link: https://componentsearchengine.com/Datasheets/2/SKHHBSA010.pdf; Height: 11.4mm
footprint SKHHBSA010
pins: 1, 2, 3, 4

## SN74CB3Q3244PWR
designator S?
SN74CB3Q3244PWR Digital Bus Switch SMD; Manufacturer_Name: Texas Instruments; Datasheet Link: http://www.ti.com/lit/gpn/sn74cb3q3244; Height: 1.2mm; Manufacturer_Part_Number: SN74CB3Q3244PWR; Arrow Part Number: SN74CB3Q3244PWR
footprint SOP65P640X120-20N
pins: 1 ~{1OE} (in), 2 1A1 (io), 3 2B4 (io), 4 1A2 (io), 5 2B3 (io), 6 1A3 (io), 7 2B2 (io), 8 1A4 (io), 9 2B1 (io), 10 GND (power), 11 2A1 (io), 12 1B4 (io), 13 2A2 (io), 14 1B3 (io), 15 2A3 (io), 16 1B2 (io), 17 2A4 (io), 18 1B1 (io), 19 ~{2OE} (in), 20 VCC (power)

## SN74HC595DR
designator U?
8-Bit Shift Registers With 3-State Output Registers, D0016A, LARGE T&R; Manufacturer: Texas Instruments; Output Drive (IOL/IOH)(Max)(mA): 7.8/-7.8; Rating: Military; ICC @ Nom Voltage(Max)(mA): 0.08; VCC(Min)(V): 2; tpd @ Nom Voltage(Max)(ns): 34; 3-State Output: Yes; Output Type: CMOS; Voltage(Nom)(V): 6; F @ Nom Voltage(Max)(Mhz): 28; Technology Family: HC; Bits: 4; Max Supply Voltage: 6V; Min Supply Voltage: 2V; Propagation Delay: 250ns; Number of Elements: 1; Number of Output Lines: 10; Direction: Unidirectional; Number of Bits: 8; Quiescent Current: 8uA; Operating Supply Voltage: 5V; Frequency: 42MHz; Max Input Current: 1uA; PackageReference: D0016A; Code_JEDEC: MS-012 variation AC; Generic Part Number: SN74HC595; Operating Temperature Range(C): -40 to 85; DatasheetVersion: SCLS041H; PackageVersion: http://www.ti.com/lit/ml/mpds178g/mpds178g.pdf; Input Type: CMOS; VCC(Max)(V): 6; Supplier 1: Digi-Key; Supplier Part Number 1: 296-14857-1-ND; Manufacturer Part Number: SN74HC595DR; Stock 1: 38406; Pricing 1: 1=0.51000, 10=0.43300, 100=0.32300, 500=0.25380, 1000=0.19611 (USD); RoHS: Yes; Mount: Surface Mount; Case/Package: SOIC; Number of Pins: 16; Weight: 0.004998oz; Contact Plating: Gold; Min Operating Temperature: -40°C; Max Operating Temperature: 85°C; Packaging: Tape and Reel; Package Quantity: 2500; Logic Function: Shift Register; Number of Circuits: 4; Number of Bits per Element: 8; Turn-On Delay Time: 250ns; Termination: SMD/SMT; Length: 9.9mm; Height: 1.58mm; Width: 3.91mm; Radiation Hardening: No; REACH SVHC: No SVHC; Lead Free: Lead Free; ComponentLink1URL: https://datasheet.ciiva.com/15093/getdatasheetpartid-134875-15093436.pdf?src-supplier=Verical; ComponentLink1Description: https://datasheet.ciiva.com/15093/getdatasheetpartid-134875-15093436.pdf?src-supplier=Verical; ComponentLink2URL: https://datasheet.ciiva.com/22696/1831198-22696812.pdf?src-supplier=Element14; ComponentLink2Description: https://datasheet.ciiva.com/22696/1831198-22696812.pdf?src-supplier=Element14; ComponentLink3URL: https://datasheet.ciiva.com/34301/916385-34301758.pdf?src-supplier=Jameco; ComponentLink3Description: https://datasheet.ciiva.com/34301/916385-34301758.pdf?src-supplier=Jameco; ComponentLink4URL: https://datasheet.ciiva.com/26866/sn74hc595dr-26866161.pdf?src-supplier=IIIC; ComponentLink4Description: https://datasheet.ciiva.com/26866/sn74hc595dr-26866161.pdf?src-supplier=IIIC; ComponentLink5URL: https://datasheet.ciiva.com/1886/sn74hc595-1886279.pdf?src-supplier=Digi-Key; ComponentLink5Description: https://datasheet.ciiva.com/1886/sn74hc595-1886279.pdf?src-supplier=Digi-Key; ComponentLink6URL: https://datasheet.ciiva.com/1886/sn74hc595-1886280.pdf?src-supplier=Digi-Key; ComponentLink6Description: https://datasheet.ciiva.com/1886/sn74hc595-1886280.pdf?src-supplier=Digi-Key; ComponentLink7URL: https://datasheet.ciiva.com/1886/sn74hc595-1886281.pdf?src-supplier=Digi-Key; ComponentLink7Description: https://datasheet.ciiva.com/1886/sn74hc595-1886281.pdf?src-supplier=Digi-Key; ComponentLink8URL: https://datasheet.ciiva.com/1509/1831198-1509483.pdf?src-supplier=Element14; ComponentLink8Description: https://datasheet.ciiva.com/1509/1831198-1509483.pdf?src-supplier=Element14; ComponentLink9URL: https://datasheet.ciiva.com/46381/1886142-46381835.pdf?src-supplier=Element14; ComponentLink9Description: https://datasheet.ciiva.com/46381/1886142-46381835.pdf?src-supplier=Element14; ComponentLink10URL: https://datasheet.ciiva.com/14294/sn74hc595-14294989.pdf?src-supplier=Avnet; ComponentLink10Description: https://datasheet.ciiva.com/14294/sn74hc595-14294989.pdf?src-supplier=Avnet; ComponentLink11URL: https://datasheet.ciiva.com/14294/sn74hc595-14294991.pdf?src-supplier=Avnet; ComponentLink11Description: https://datasheet.ciiva.com/14294/sn74hc595-14294991.pdf?src-supplier=Avnet; ComponentLink12URL: https://datasheet.ciiva.com/46435/1831198-46435871.pdf?src-supplier=Element14; ComponentLink12Description: https://datasheet.ciiva.com/46435/1831198-46435871.pdf?src-supplier=Element14
footprint SOIC127P1030X265-16N (SOIC, 16-Leads, Body 10.30x7.50mm, Pitch 1.27mm, IPC Medium Density)
pins: 1 QB (hiz) "QB Output", 2 QC (hiz) "QC Output", 3 QD (hiz) "QD Output", 4 QE (hiz) "QE Output", 5 QF (hiz) "QF Output", 6 QG (hiz) "QG Output", 7 QH (hiz) "QH Output", 8 GND (power) "Ground Pin", 9 QH' (out) "QH' Output", 10 ~{SRCLR} (in) "S\R\C\L\R\ Input", 11 SRCLK (in) "SRCLK Input", 12 RCLK (in) "RCLK Input", 13 ~{OE} (in) "Output Enable Pin", 14 SER (in) "SER Input", 15 QA (hiz) "QA Output", 16 VCC (power) "Power Pin"

## SN74LS244N
designator U?
SN74LS244N Through Hole; Manufacturer_Name: Texas Instruments; Datasheet Link: https://www.ti.com/lit/gpn/SN74LS244; Height: 5.08mm; Manufacturer_Part_Number: SN74LS244N
footprint DIP794W53P254L2540H508Q20N
pins: 1 1~{G}, 2 1A1, 3 2Y4, 4 1A2, 5 2Y3, 6 1A3, 7 2Y2, 8 1A4, 9 2Y1, 10 GND, 11 2A1, 12 1Y4, 13 2A2, 14 1Y3, 15 2A3, 16 1Y2, 17 2A4, 18 1Y1, 19 2~{G}/2G, 20 VCC

## SN74LVC1G04DCKR
designator U?
Single Chip Inverter SN74LVC1G04DCKR SMD; Manufacturer_Name: Texas Instruments; Datasheet Link: http://www.ti.com/lit/ds/symlink/sn74lvc1g04.pdf; Height: 1.1mm; Mouser2 Part Number: 595-SN74LVC1G04DCKR; Mouser2 Price/Stock: https://www.mouser.com/Search/Refine.aspx?Keyword=595-SN74LVC1G04DCKR; Manufacturer_Part_Number: SN74LVC1G04DCKR
footprint SOT65P210X110-5N
pins: 1 NC, 2 A, 3 GND, 4 Y, 5 VCC

## SPI_Connector
designator H?
6 Pin 2X3 Through Hole Header
footprint HDR2X3 (Connector; Header; 3x2 Position)
pins: 1 SCK, 2 MOSI, 3 MISO, 4 GND, 5 /CS, 6 NC
text: ICE Prgm-Tiny Pin

## TDSR1360-IK
designator DS?
7 Segment Display Command Cathode Ref Through Hole; Manufacturer_Name: Vishay; Manufacturer_Part_Number: TDSR1360-IK; Datasheet Link: https://componentsearchengine.com//TDSR1360-IK.pdf; Height: 7.1mm; Mouser2 Part Number: 78-TDSR1360-IK; Mouser2 Price/Stock: https://www.mouser.com/Search/Refine.aspx?Keyword=78-TDSR1360-IK
footprint TDSR1360IK
pins: 1 SEG_E, 2 SEG_D, 3 Com_0, 4 SEG_C, 5 SEG_DP, 6 SEG_B, 7 SEG_A, 8 Com_1, 9 SEG_F, 10 SEG_G

## TPS2061CDBVR
designator IC?
USB Power Switch SMD; Manufacturer_Name: Texas Instruments; Manufacturer_Part_Number: TPS2061CDBVR; Datasheet Link: http://www.ti.com/lit/gpn/TPS2061C; Height: 1.45mm
footprint SOT95P280X145-5N
pins: 1 OUT, 2 GND, 3 ~{FLT}, 4 EN/~{EN}, 5 IN

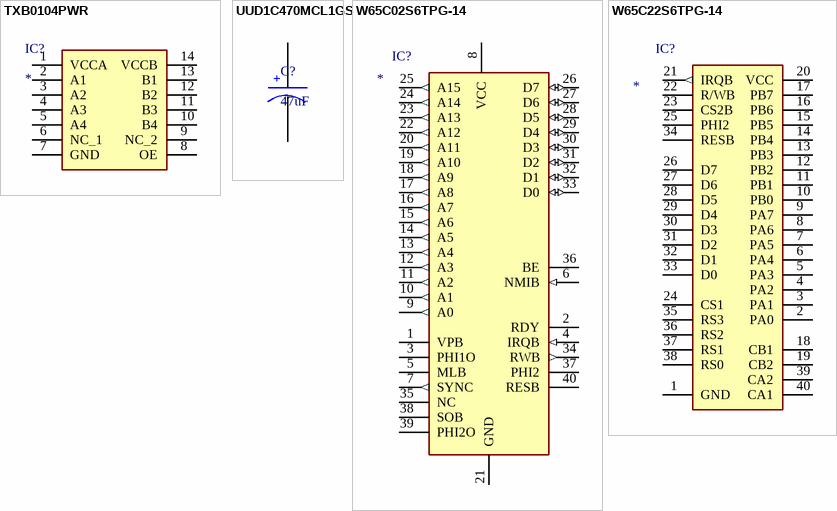
[diagram p2: symbols TXB0104PWR to W65C22S6TPG-14]

## TXB0104PWR
designator IC?
Level Translator 3.3v and 5V SMD; Manufacturer_Name: Texas Instruments; Manufacturer_Part_Number: TXB0104PWR; Datasheet Link: http://www.ti.com/lit/ds/symlink/txb0104.pdf; Height: 1.2mm; Mouser2 Part Number: 595-TXB0104PWR; Mouser2 Price/Stock: https://www.mouser.com/Search/Refine.aspx?Keyword=595-TXB0104PWR
footprint SOP65P640X120-14N
pins: 1 VCCA, 2 A1, 3 A2, 4 A3, 5 A4, 6 NC_1, 7 GND, 8 OE, 9 NC_2, 10 B4, 11 B3, 12 B2, 13 B1, 14 VCCB

## UUD1C470MCL1GS
designator C?, comment 47uF
CAP ALUM 47UF 20% 16V SMD; Manufacturer: Nichicon; Manufacturer Part Number: UUD1C470MCL1GS; Dielectric Material: Aluminium; Ripple Current: 230mA; Impedance: 440mR; Leakage Current: 3uA; Life (Hours): 2000Hour; Dissipation Factor: 0.2%; Lead Diameter: 0.8mm; Supplier 1: Digi-Key; RoHS: Yes; Category: Aluminum Electrolytic Capacitors; Stock 1: 26327; Pricing 1: 1=0.50000, 10=0.34600, 50=0.24220, 100=0.20760, 500=0.15568 (USD); Case/Package: Radial; Number of Pins: 2; Contact Plating: Tin; Min Operating Temperature: -55°C; Max Operating Temperature: 105°C; Tolerance: 20%; Capacitance: 47uF; Package Quantity: 1000; Voltage Rating (DC): 16V; Packaging: Tape and Reel; Voltage Rating: 16V; Ripple Current (AC): 230mA; Termination: SMD/SMT; Voltage: 16V; Diameter: 6.3mm; Length: 5.8mm; Height: 5.8mm; Lead Pitch: 2.2mm; Height - Seated (Max): 0.228inch; Radiation Hardening: No; REACH SVHC: No SVHC; Lead Free: Lead Free; ComponentLink1URL: https://datasheet.ciiva.com/30522/getdatasheetpartid-449848-30522051.pdf?src-supplier=Verical; ComponentLink1Description: https://datasheet.ciiva.com/30522/getdatasheetpartid-449848-30522051.pdf?src-supplier=Verical; ComponentLink2URL: https://datasheet.ciiva.com/96/e-ud-96997.pdf?src-supplier=Digi-Key; ComponentLink2Description: https://datasheet.ciiva.com/96/e-ud-96997.pdf?src-supplier=Digi-Key; ComponentLink3URL: https://datasheet.ciiva.com/11776/0900766b80fa39e7-11776889.pdf?src-supplier=RSComponents; ComponentLink3Description: https://datasheet.ciiva.com/11776/0900766b80fa39e7-11776889.pdf?src-supplier=RSComponents; ComponentLink4URL: https://datasheet.ciiva.com/96/e-ud-96998.pdf?src-supplier=Digi-Key; ComponentLink4Description: https://datasheet.ciiva.com/96/e-ud-96998.pdf?src-supplier=Digi-Key; ComponentLink5URL: https://datasheet.ciiva.com/96/e-ud-96999.pdf?src-supplier=Digi-Key; ComponentLink5Description: https://datasheet.ciiva.com/96/e-ud-96999.pdf?src-supplier=Digi-Key; ComponentLink6URL: https://datasheet.ciiva.com/11686/e-ud-11686236.pdf?src-supplier=Avnet; ComponentLink6Description: https://datasheet.ciiva.com/11686/e-ud-11686236.pdf?src-supplier=Avnet; ComponentLink7URL: https://datasheet.ciiva.com/16502/e-ud-16502750.pdf?src-supplier=Future+Electronics; ComponentLink7Description: https://datasheet.ciiva.com/16502/e-ud-16502750.pdf?src-supplier=Future+Electronics; ComponentLink8URL: https://datasheet.ciiva.com/7781/e-ud-7781695.pdf?src-supplier=Element14; ComponentLink8Description: https://datasheet.ciiva.com/7781/e-ud-7781695.pdf?src-supplier=Element14; Supplier Part Number 1: 493-2259-1-ND
footprint CapSMD_6.3x5.8
pins: 1, 2
text: +

## W65C02S6TPG-14
designator IC?
6502 Processor Though Hole; Manufacturer_Name: Western Design Center (WDC); Manufacturer_Part_Number: W65C02S6TPG-14; Datasheet Link: https://componentsearchengine.com//W65C02S6TPG-14.pdf; Height: 5.08mm; Mouser2 Part Number: 955-W65C02S6TPG-14; Mouser2 Price/Stock: https://www.mouser.com/Search/Refine.aspx?Keyword=955-W65C02S6TPG-14
footprint DIP1524W56P254L5207H508Q40N
pins: 1 VPB, 2 RDY, 3 PHI1O, 4 IRQB (in), 5 MLB, 6 NMIB (in), 7 SYNC (out), 8 VCC (power), 9 A0 (out), 10 A1 (out), 11 A2 (out), 12 A3 (out), 13 A4 (out), 14 A5 (out), 15 A6 (out), 16 A7 (out), 17 A8 (out), 18 A9 (out), 19 A10 (out), 20 A11 (out), 21 GND (power), 22 A12 (out), 23 A13 (out), 24 A14 (out), 25 A15 (out), 26 D7 (io), 27 D6 (io), 28 D5 (io), 29 D4 (io), 30 D3 (io), 31 D2 (io), 32 D1 (io), 33 D0 (io), 34 RWB (out), 35 NC, 36 BE, 37 PHI2, 38 SOB, 39 PHI2O, 40 RESB

## W65C22S6TPG-14
designator IC?
65C22S6 IO Controller Through Hole; Manufacturer_Name: Western Design Center (WDC); Manufacturer_Part_Number: W65C22S6TPG-14; Datasheet Link: https://componentsearchengine.com//W65C22S6TPG-14.pdf; Height: 4.07mm; Mouser2 Part Number: 955-W65C22S6TPG-14; Mouser2 Price/Stock: https://www.mouser.com/Search/Refine.aspx?Keyword=955-W65C22S6TPG-14
footprint DIP1524W38P254L5207H407Q40N
pins: 1 GND, 2 PA0, 3 PA1, 4 PA2, 5 PA3, 6 PA4, 7 PA5, 8 PA6, 9 PA7, 10 PB0, 11 PB1, 12 PB2, 13 PB3, 14 PB4, 15 PB5, 16 PB6, 17 PB7, 18 CB1, 19 CB2, 20 VCC, 21 IRQB (out), 22 R/WB, 23 CS2B, 24 CS1, 25 PHI2, 26 D7, 27 D6, 28 D5, 29 D4, 30 D3, 31 D2, 32 D1, 33 D0, 34 RESB, 35 RS3, 36 RS2, 37 RS1, 38 RS0, 39 CA2, 40 CA1